# Altium schematic symbol library ISL.SchLib: 24 symbols
Pins are listed as number, name and electrical type; pins without a type are passive.

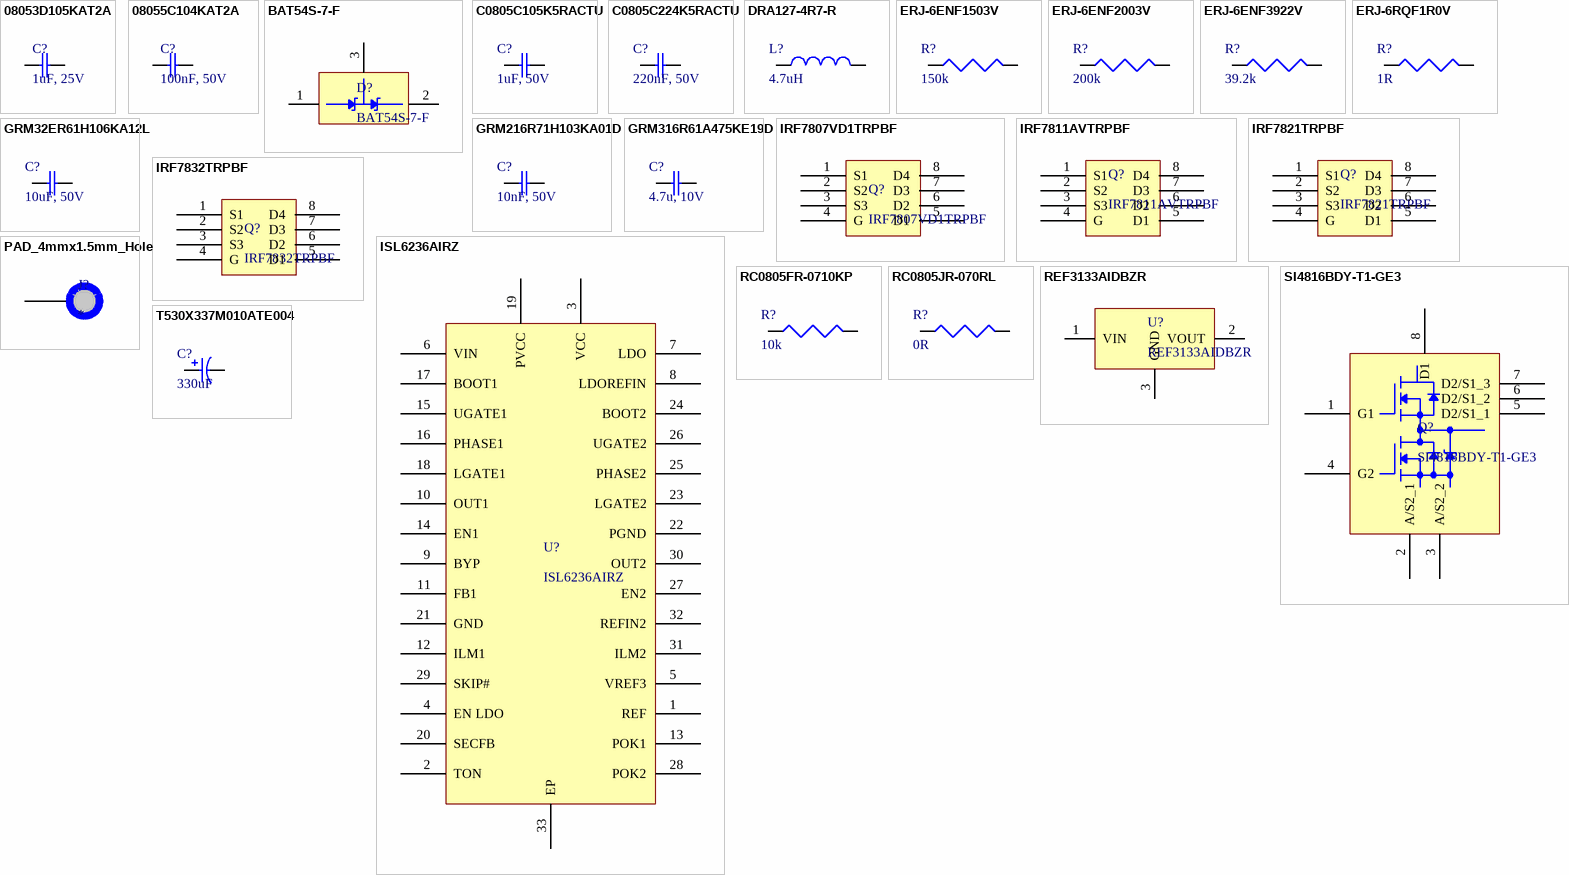
[diagram p0: symbols 08053D105KAT2A to T530X337M010ATE004]

## 08053D105KAT2A
designator C?, comment 1uF, 25V
CAP CER 1UF 25V X5R 0805; Manufacturer: AVX Corporation; Manufacturer Part Number: 08053D105KAT2A; Capacitance: 1µF; Tolerance: ±10%; Supplier 1: Digi-Key; RoHS: RoHS Compliant; Category: Capacitors; Stock 1: 76642; Pricing 1: 1=0.48, 10=0.42, 100=0.21, 250=0.168, 500=0.153, 1000=0.138 (USD); Packaging: Cut Tape (CT); Voltage - Rated: 25V; Temperature Coefficient: X5R; Mounting Type: Surface Mount, MLCC; Operating Temperature: -55°C ~ 85°C; Applications: General Purpose; Ratings: -; Package / Case: 0805 (2012 Metric); Size / Dimension: 0.079" L x 0.049" W (2.01mm x 1.25mm); Height - Seated (Max): -; Thickness (Max): 0.055" (1.40mm); Lead Spacing: -; Features: -; Lead Style: -; ComponentLink1URL: http://datasheets.avx.com/cx5r.pdf; ComponentLink1Description: http://datasheets.avx.com/cx5r.pdf; Supplier Part Number 1: 478-1409-1-ND
footprint C0805
pins: 1, 2

## 08055C104KAT2A
designator C?, comment 100nF, 50V
CAP CER 0.1UF 50V X7R 0805; Manufacturer: AVX Corporation; Manufacturer Part Number: 08055C104KAT2A; Capacitance: 0.1µF; Tolerance: ±10%; Supplier 1: Digi-Key; RoHS: RoHS Compliant; Category: Capacitors; Stock 1: 10719332; Pricing 1: 1=0.1, 10=0.036, 100=0.0165, 250=0.01352, 500=0.01156, 1000=0.009 (USD); Packaging: Cut Tape (CT); Voltage - Rated: 50V; Temperature Coefficient: X7R; Mounting Type: Surface Mount, MLCC; Operating Temperature: -55°C ~ 125°C; Applications: General Purpose; Ratings: -; Package / Case: 0805 (2012 Metric); Size / Dimension: 0.079" L x 0.049" W (2.01mm x 1.25mm); Height - Seated (Max): -; Thickness (Max): 0.037" (0.94mm); Lead Spacing: -; Features: -; Lead Style: -; ComponentLink1URL: http://datasheets.avx.com/X7RDielectric.pdf; ComponentLink1Description: http://datasheets.avx.com/X7RDielectric.pdf; Supplier Part Number 1: 478-1395-1-ND
footprint C0805
pins: 1, 2

## BAT54S-7-F
designator D?
DIODE ARRAY SCHOTTKY 30V SOT23-3; Manufacturer: Diodes Incorporated; Diode Configuration: 1 Pair Series Connection; Current - Average Rectified (Io) (per Diode): 200mA (DC); Voltage - Forward (Vf) (Max) @ If: 800mV @ 100mA; Speed: Small Signal =< 200mA (Io), Any Speed; Reverse Recovery Time (trr): 5ns; Current - Reverse Leakage @ Vr: 2µA @ 25V; Supplier 1: Digi-Key; Manufacturer Part Number: BAT54S-7-F; RoHS: RoHS Compliant; Category: Discrete Semiconductor Products; Stock 1: 198289; Pricing 1: 1=0.19, 10=0.176, 100=0.0958, 500=0.0589, 1000=0.04017 (USD); Packaging: Cut Tape (CT); Diode Type: Schottky; Voltage - DC Reverse (Vr) (Max): 30V; Mounting Type: Surface Mount; Package / Case: TO-236-3, SC-59, SOT-23-3; Supplier Device Package: SOT-23-3; ComponentLink1URL: http://www.diodes.com/_files/datasheets/ds11005.pdf; ComponentLink1Description: http://www.diodes.com/_files/datasheets/ds11005.pdf; Supplier Part Number 1: BAT54S-FDICT-ND
footprint SOT-23
pins: 1 A1, 2 K2, 3 K1A2

## C0805C105K5RACTU
designator C?, comment 1uF, 50V
CAP CER 1UF 50V X7R 0805; Manufacturer: Kemet; Manufacturer Part Number: C0805C105K5RACTU; Capacitance: 1µF; Tolerance: ±10%; Supplier 1: Digi-Key; RoHS: RoHS Compliant; Category: Capacitors; Stock 1: 171950; Pricing 1: 1=0.34, 10=0.28, 50=0.1576, 100=0.14, 250=0.105, 500=0.09276, 1000=0.08225 (USD); Packaging: Cut Tape (CT); Voltage - Rated: 50V; Temperature Coefficient: X7R; Mounting Type: Surface Mount, MLCC; Operating Temperature: -55°C ~ 125°C; Applications: General Purpose; Ratings: -; Package / Case: 0805 (2012 Metric); Size / Dimension: 0.079" L x 0.049" W (2.00mm x 1.25mm); Height - Seated (Max): -; Thickness (Max): 0.055" (1.40mm); Lead Spacing: -; Features: -; Lead Style: -; ComponentLink1URL: http://www.kemet.com/docfinder?Partnumber=C0805C105K5RACTU; ComponentLink1Description: http://www.kemet.com/docfinder?Partnumber=C0805C105K5RACTU; Supplier Part Number 1: 399-7409-1-ND
footprint C0805
pins: 1, 2

## C0805C224K5RACTU
designator C?, comment 220nF, 50V
CAP CER 0.22UF 50V X7R 0805; Manufacturer: Kemet; Manufacturer Part Number: C0805C224K5RACTU; Capacitance: 0.22µF; Tolerance: ±10%; Supplier 1: Digi-Key; RoHS: RoHS Compliant; Category: Capacitors; Stock 1: 999894; Pricing 1: 1=0.14, 10=0.095, 50=0.0546, 100=0.0451, 250=0.038, 500=0.03182, 1000=0.02613 (USD); Packaging: Cut Tape (CT); Voltage - Rated: 50V; Temperature Coefficient: X7R; Mounting Type: Surface Mount, MLCC; Operating Temperature: -55°C ~ 125°C; Applications: General Purpose; Ratings: -; Package / Case: 0805 (2012 Metric); Size / Dimension: 0.079" L x 0.049" W (2.00mm x 1.25mm); Height - Seated (Max): -; Thickness (Max): 0.055" (1.40mm); Lead Spacing: -; Features: -; Lead Style: -; ComponentLink1URL: http://www.kemet.com/docfinder?Partnumber=C0805C224K5RACTU; ComponentLink1Description: http://www.kemet.com/docfinder?Partnumber=C0805C224K5RACTU; Supplier Part Number 1: 399-3491-1-ND
footprint C0805
pins: 1, 2

## DRA127-4R7-R
designator L?, comment 4.7uH
FIXED IND 4.7UH 8.14A 9.4 MOHM; Manufacturer: Eaton Bussmann; Manufacturer Part Number: DRA127-4R7-R; Type: Wirewound; Inductance: 4.7µH; Tolerance: ±20%; Current - Saturation: 16.5A; Shielding: Shielded; Frequency - Test: 100kHz; Supplier 1: Digi-Key; RoHS: RoHS Compliant; Category: Inductors, Coils, Chokes; Stock 1: 411; Pricing 1: 1=2.55, 10=2.38, 50=1.938, 100=1.768 (USD); Packaging: Cut Tape (CT); Material - Core: -; Current Rating: 8.14A; DC Resistance (DCR): 9.4 mOhm; Q @ Freq: -; Frequency - Self Resonant: -; Ratings: AEC-Q200; Operating Temperature: -40°C ~ 165°C; Mounting Type: Surface Mount; Package / Case: Nonstandard; Size / Dimension: 0.492" L x 0.492" W (12.50mm x 12.50mm); Height - Seated (Max): 0.315" (8.00mm); ComponentLink1URL: http://www1.cooperbussmann.com/pdf/9190a0eb-f996-4faf-a4d6-7b76f954f32d.pdf; ComponentLink1Description: http://www1.cooperbussmann.com/pdf/9190a0eb-f996-4faf-a4d6-7b76f954f32d.pdf; Supplier Part Number 1: 283-3598-1-ND
footprint DR127
pins: 1, 2

## ERJ-6ENF1503V
designator R?, comment 150k
RES SMD 150K OHM 1% 1/8W 0805; Manufacturer: Panasonic Electronic Components; Manufacturer Part Number: ERJ-6ENF1503V; Power (Watts): 0.125W, 1/8W; Temperature Coefficient: ±100ppm/°C; Supplier 1: Digi-Key; RoHS: RoHS Compliant; Category: Resistors; Stock 1: 91069; Pricing 1: 1=0.1, 50=0.022, 100=0.0162, 250=0.01236, 500=0.0099, 1000=0.00729 (USD); Packaging: Cut Tape (CT); Resistance (Ohms): 150k; Tolerance: ±1%; Composition: Thick Film; Features: Automotive AEC-Q200; Operating Temperature: -55°C ~ 155°C; Package / Case: 0805 (2012 Metric); Supplier Device Package: 0805; Size / Dimension: 0.079" L x 0.049" W (2.00mm x 1.25mm); Height: 0.028" (0.70mm); Number of Terminations: 2; ComponentLink1URL: http://industrial.panasonic.com/www-cgi/jvcr13pz.cgi?E+PZ+3+AOA0002+ERJ6ENF1503V+7+WW; ComponentLink1Description: http://industrial.panasonic.com/www-cgi/jvcr13pz.cgi?E+PZ+3+AOA0002+ERJ6ENF1503V+7+WW; Supplier Part Number 1: P150KCCT-ND
footprint R0805
pins: 1, 2

## ERJ-6ENF2003V
designator R?, comment 200k
PANASONIC ELECTRONIC COMPONENTS - ERJ-6ENF2003V - RES, THICK FILM, 200K, 1%, 0.125W, 0805; Product Range: AEC-Q200 ERJ Series; Resistance: 200; Power Rating: 125; Voltage Rating: 150; Resistor Case Style: 0805 [2012 Metric]; Supplier 1: Newark; Manufacturer: PANASONIC ELECTRONIC COMPONENTS; Manufacturer Part Number: ERJ-6ENF2003V; RoHS: YES; Stock 1: 4312; Pricing 1: 1=0.005, 50=0.005, 100=0.005, 250=0.005, 500=0.005, 1000=0.005, 2500=0.005 (USD); Resistance Tolerance: 1%; Packaging: Cut Tape; MSL: -; ComponentLink1URL: http://www.farnell.com/cad/1697894.zip; ComponentLink1Description: http://www.farnell.com/cad/1697894.zip; ComponentLink2URL: http://www.farnell.com/datasheets/1678782.pdf; ComponentLink2Description: http://www.farnell.com/datasheets/1678782.pdf; Supplier Part Number 1: 65T8717
footprint R0805
pins: 1, 2

## ERJ-6ENF3922V
designator R?, comment 39.2k
RES SMD 39.2K OHM 1% 1/8W 0805; Manufacturer: Panasonic Electronic Components; Manufacturer Part Number: ERJ-6ENF3922V; Power (Watts): 0.125W, 1/8W; Temperature Coefficient: ±100ppm/°C; Supplier 1: Digi-Key; RoHS: RoHS Compliant; Category: Resistors; Stock 1: 135124; Pricing 1: 1=0.1, 50=0.022, 100=0.0162, 250=0.01236, 500=0.0099, 1000=0.00729 (USD); Packaging: Cut Tape (CT); Resistance (Ohms): 39.2k; Tolerance: ±1%; Composition: Thick Film; Features: Automotive AEC-Q200; Operating Temperature: -55°C ~ 155°C; Package / Case: 0805 (2012 Metric); Supplier Device Package: 0805; Size / Dimension: 0.079" L x 0.049" W (2.00mm x 1.25mm); Height: 0.028" (0.70mm); Number of Terminations: 2; ComponentLink1URL: http://industrial.panasonic.com/www-cgi/jvcr13pz.cgi?E+PZ+3+AOA0002+ERJ6ENF3922V+7+WW; ComponentLink1Description: http://industrial.panasonic.com/www-cgi/jvcr13pz.cgi?E+PZ+3+AOA0002+ERJ6ENF3922V+7+WW; Supplier Part Number 1: P39.2KCCT-ND
footprint R0805
pins: 1, 2

## ERJ-6RQF1R0V
designator R?, comment 1R
RES SMD 1 OHM 1% 1/8W 0805; Manufacturer: Panasonic Electronic Components; Manufacturer Part Number: ERJ-6RQF1R0V; Resistance (Ohms): 1; Power (Watts): 0.125W, 1/8W; Temperature Coefficient: ±200ppm/°C; Supplier 1: Digi-Key; RoHS: RoHS Compliant; Category: Resistors; Stock 1: 104241; Pricing 1: 1=0.57, 50=0.2266, 100=0.1748, 250=0.13596, 500=0.09584, 1000=0.06993 (USD); Packaging: Cut Tape (CT); Tolerance: ±1%; Composition: Thick Film; Features: Automotive AEC-Q200, Current Sense; Operating Temperature: -55°C ~ 125°C; Package / Case: 0805 (2012 Metric); Supplier Device Package: 0805; Size / Dimension: 0.079" L x 0.049" W (2.00mm x 1.25mm); Height: 0.028" (0.70mm); Number of Terminations: 2; ComponentLink1URL: http://industrial.panasonic.com/lecs/www-data/pdf/AOA0000/AOA0000CE3.pdf; ComponentLink1Description: http://industrial.panasonic.com/lecs/www-data/pdf/AOA0000/AOA0000CE3.pdf; Supplier Part Number 1: P1.0DCT-ND
footprint R0805
pins: 1, 2

## GRM32ER61H106KA12L
designator C?, comment 10uF, 50V
CAP CER 10UF 50V X5R 1210; Manufacturer: Murata Electronics North America; Manufacturer Part Number: GRM32ER61H106KA12L; Capacitance: 10µF; Tolerance: ±10%; Supplier 1: Digi-Key; RoHS: RoHS Compliant; Category: Capacitors; Stock 1: 6405; Pricing 1: 1=0.89, 10=0.755, 50=0.5558, 100=0.4418, 250=0.37052, 500=0.33488 (USD); Packaging: Cut Tape (CT); Voltage - Rated: 50V; Temperature Coefficient: X5R; Mounting Type: Surface Mount, MLCC; Operating Temperature: -55°C ~ 85°C; Applications: General Purpose; Ratings: -; Package / Case: 1210 (3225 Metric); Size / Dimension: 0.126" L x 0.098" W (3.20mm x 2.50mm); Height - Seated (Max): -; Thickness (Max): 0.106" (2.70mm); Lead Spacing: -; Features: -; Lead Style: -; ComponentLink1URL: http://www.murata.com/~/media/webrenewal/support/library/catalog/products/capacitor/mlcc/c02e.pdf; ComponentLink1Description: http://www.murata.com/~/media/webrenewal/support/library/catalog/products/capacitor/mlcc/c02e.pdf; Supplier Part Number 1: 490-8590-1-ND
footprint C1210
pins: 1, 2

## GRM216R71H103KA01D
designator C?, comment 10nF, 50V
CAP CER 10000PF 50V X7R 0805; Manufacturer: Murata Electronics North America; Manufacturer Part Number: GRM216R71H103KA01D; Tolerance: ±10%; Supplier 1: Digi-Key; RoHS: RoHS Compliant; Category: Capacitors; Stock 1: 1473285; Pricing 1: 1=0.1, 10=0.031, 50=0.0168, 100=0.0142, 250=0.01164, 500=0.00998, 1000=0.00777 (USD); Packaging: Cut Tape (CT); Capacitance: 10000pF; Voltage - Rated: 50V; Temperature Coefficient: X7R; Mounting Type: Surface Mount, MLCC; Operating Temperature: -55°C ~ 125°C; Applications: General Purpose; Ratings: -; Package / Case: 0805 (2012 Metric); Size / Dimension: 0.079" L x 0.049" W (2.00mm x 1.25mm); Height - Seated (Max): -; Thickness (Max): 0.028" (0.70mm); Lead Spacing: -; Features: -; Lead Style: -; ComponentLink1URL: http://www.murata.com/~/media/webrenewal/support/library/catalog/products/capacitor/mlcc/c02e.pdf; ComponentLink1Description: http://www.murata.com/~/media/webrenewal/support/library/catalog/products/capacitor/mlcc/c02e.pdf; Supplier Part Number 1: 490-1664-1-ND
footprint C0805
pins: 1, 2

## GRM316R61A475KE19D
designator C?, comment 4.7u, 10V
CAP CER 4.7UF 10V X5R 1206; Manufacturer: Murata Electronics North America; Manufacturer Part Number: GRM316R61A475KE19D; Capacitance: 4.7µF; Tolerance: ±10%; Supplier 1: Digi-Key; RoHS: RoHS Compliant; Category: Capacitors; Stock 1: 8071; Pricing 1: 1=0.34, 10=0.282, 50=0.1588, 100=0.1412, 250=0.10592, 500=0.09354, 1000=0.08296 (USD); Packaging: Cut Tape (CT); Voltage - Rated: 10V; Temperature Coefficient: X5R; Mounting Type: Surface Mount, MLCC; Operating Temperature: -55°C ~ 85°C; Applications: General Purpose; Ratings: -; Package / Case: 1206 (3216 Metric); Size / Dimension: 0.126" L x 0.063" W (3.20mm x 1.60mm); Height - Seated (Max): -; Thickness (Max): 0.028" (0.70mm); Lead Spacing: -; Features: -; Lead Style: -; ComponentLink1URL: http://www.murata.com/~/media/webrenewal/support/library/catalog/products/capacitor/mlcc/c02e.pdf; ComponentLink1Description: http://www.murata.com/~/media/webrenewal/support/library/catalog/products/capacitor/mlcc/c02e.pdf; Supplier Part Number 1: 490-1818-1-ND
footprint C1206
pins: 1, 2

## IRF7807VD1TRPBF
designator Q?
MOSFET N-CH 30V 8.3A 8-SOIC; Manufacturer: Infineon Technologies Americas Corp.; FET Type: MOSFET N-Channel, Metal Oxide; FET Feature: Diode (Isolated); Current - Continuous Drain (Id) @ 25°C: 8.3A (Ta); Rds On (Max) @ Id, Vgs: 25 mOhm @ 7A, 4.5V; Vgs(th) (Max) @ Id: 3V @ 250µA; Gate Charge (Qg) @ Vgs: 14nC @ 4.5V; Power - Max: 2.5W; Supplier 1: Digi-Key; Manufacturer Part Number: IRF7807VD1TRPBF; RoHS: RoHS Compliant; Category: Discrete Semiconductor Products; Stock 1: 3959; Pricing 1: 1=1.12, 10=1.003, 100=0.7821, 500=0.6468, 1000=0.5115 (USD); Packaging: Cut Tape (CT); Drain to Source Voltage (Vdss): 30V; Input Capacitance (Ciss) @ Vds: -; Mounting Type: Surface Mount; Package / Case: 8-SOIC (0.154", 3.90mm Width); Supplier Device Package: 8-SO; ComponentLink1URL: http://www.irf.com/product-info/datasheets/data/irf7807vd1pbf.pdf; ComponentLink1Description: http://www.irf.com/product-info/datasheets/data/irf7807vd1pbf.pdf; Supplier Part Number 1: IRF7807VD1PBFCT-ND
footprint SO-8
pins: 1 S1, 2 S2, 3 S3, 4 G, 5 D1, 6 D2, 7 D3, 8 D4

## IRF7811AVTRPBF
designator Q?
MOSFET N-CH 30V 10.8A 8-SOIC; Manufacturer: Infineon Technologies Americas Corp.; FET Type: MOSFET N-Channel, Metal Oxide; FET Feature: Standard; Current - Continuous Drain (Id) @ 25°C: 10.8A (Ta); Rds On (Max) @ Id, Vgs: 14 mOhm @ 15A, 4.5V; Vgs(th) (Max) @ Id: 3V @ 250µA; Gate Charge (Qg) @ Vgs: 26nC @ 5V; Input Capacitance (Ciss) @ Vds: 1801pF @ 10V; Power - Max: 2.5W; Supplier 1: Digi-Key; Manufacturer Part Number: IRF7811AVTRPBF; RoHS: RoHS Compliant; Category: Discrete Semiconductor Products; Stock 1: 1559; Pricing 1: 1=1, 10=0.897, 100=0.6992, 500=0.5782, 1000=0.45725 (USD); Packaging: Cut Tape (CT); Drain to Source Voltage (Vdss): 30V; Mounting Type: Surface Mount; Package / Case: 8-SOIC (0.154", 3.90mm Width); Supplier Device Package: 8-SO; ComponentLink1URL: http://www.irf.com/product-info/datasheets/data/irf7811avpbf.pdf; ComponentLink1Description: http://www.irf.com/product-info/datasheets/data/irf7811avpbf.pdf; Supplier Part Number 1: IRF7811AVPBFCT-ND
footprint SO-8
pins: 1 S1, 2 S2, 3 S3, 4 G, 5 D1, 6 D2, 7 D3, 8 D4

## IRF7821TRPBF
designator Q?
MOSFET N-CH 30V 13.6A 8-SOIC; Manufacturer: Infineon Technologies Americas Corp.; FET Type: MOSFET N-Channel, Metal Oxide; FET Feature: Standard; Current - Continuous Drain (Id) @ 25°C: 13.6A (Ta); Rds On (Max) @ Id, Vgs: 9.1 mOhm @ 13A, 10V; Vgs(th) (Max) @ Id: 1V @ 250µA; Gate Charge (Qg) @ Vgs: 14nC @ 4.5V; Input Capacitance (Ciss) @ Vds: 1010pF @ 15V; Power - Max: 2.5W; Supplier 1: Digi-Key; Manufacturer Part Number: IRF7821TRPBF; RoHS: RoHS Compliant; Category: Discrete Semiconductor Products; Stock 1: 20317; Pricing 1: 1=1.02, 10=0.915, 100=0.7134, 500=0.58996, 1000=0.46655 (USD); Packaging: Cut Tape (CT); Drain to Source Voltage (Vdss): 30V; Mounting Type: Surface Mount; Package / Case: 8-SOIC (0.154", 3.90mm Width); Supplier Device Package: 8-SO; ComponentLink1URL: http://www.irf.com/product-info/datasheets/data/irf7821pbf.pdf; ComponentLink1Description: http://www.irf.com/product-info/datasheets/data/irf7821pbf.pdf; Supplier Part Number 1: IRF7821PBFCT-ND
footprint SO-8
pins: 1 S1, 2 S2, 3 S3, 4 G, 5 D1, 6 D2, 7 D3, 8 D4

## IRF7832TRPBF
designator Q?
MOSFET N-CH 30V 20A 8-SOIC; Manufacturer: Infineon Technologies Americas Corp.; FET Type: MOSFET N-Channel, Metal Oxide; FET Feature: Standard; Current - Continuous Drain (Id) @ 25°C: 20A (Ta); Rds On (Max) @ Id, Vgs: 4 mOhm @ 20A, 10V; Vgs(th) (Max) @ Id: 2.32V @ 250µA; Gate Charge (Qg) @ Vgs: 51nC @ 4.5V; Input Capacitance (Ciss) @ Vds: 4310pF @ 15V; Power - Max: 2.5W; Supplier 1: Digi-Key; Manufacturer Part Number: IRF7832TRPBF; RoHS: RoHS Compliant; Category: Discrete Semiconductor Products; Stock 1: 3129; Pricing 1: 1=1.59, 10=1.42, 100=1.1068, 500=0.91532, 1000=0.72385 (USD); Packaging: Cut Tape (CT); Drain to Source Voltage (Vdss): 30V; Mounting Type: Surface Mount; Package / Case: 8-SOIC (0.154", 3.90mm Width); Supplier Device Package: 8-SO; ComponentLink1URL: http://www.irf.com/product-info/datasheets/data/irf7832pbf.pdf; ComponentLink1Description: http://www.irf.com/product-info/datasheets/data/irf7832pbf.pdf; Supplier Part Number 1: IRF7832PBFCT-ND
footprint SO-8
pins: 1 S1, 2 S2, 3 S3, 4 G, 5 D1, 6 D2, 7 D3, 8 D4

## ISL6236AIRZ
designator U?
IC MAIN PWR CTRLR QUAD 32-QFN; Manufacturer: Intersil; Voltage - Input: 4.5 V ~ 25 V; Number of Outputs: 4; Voltage - Output: Multiple; Supplier 1: Digi-Key; Manufacturer Part Number: ISL6236AIRZ; RoHS: RoHS Compliant; Category: Integrated Circuits (ICs); Stock 1: 0; Pricing 1: 600=3.818 (USD); Packaging: Tube; Applications: Controller, Notebook Power System; Operating Temperature: -40°C ~ 100°C; Mounting Type: Surface Mount; Package / Case: 32-VFQFN Exposed Pad; Supplier Device Package: 32-QFN (5x5); ComponentLink1URL: http://www.intersil.com/content/dam/Intersil/documents/fn64/fn6453.pdf; ComponentLink1Description: http://www.intersil.com/content/dam/Intersil/documents/fn64/fn6453.pdf; Supplier Part Number 1: ISL6236AIRZ-ND
footprint L32.5.5B
pins: 1 REF, 2 TON, 3 VCC, 4 EN LDO, 5 VREF3, 6 VIN, 7 LDO, 8 LDOREFIN, 9 BYP, 10 OUT1, 11 FB1, 12 ILM1, 13 POK1, 14 EN1, 15 UGATE1, 16 PHASE1, 17 BOOT1, 18 LGATE1, 19 PVCC, 20 SECFB, 21 GND, 22 PGND, 23 LGATE2, 24 BOOT2, 25 PHASE2, 26 UGATE2, 27 EN2, 28 POK2, 29 SKIP#, 30 OUT2, 31 ILM2, 32 REFIN2, 33 EP

## PAD_4mmx1.5mm_Hole
designator J?
Pad 4mm x 1.5mm with hole
footprint PAD_WITH_HOLE_4x1mm
pins: 1

## RC0805FR-0710KP
designator R?, comment 10k
RES SMD 10K OHM 1% 1/8W 0805; Manufacturer: Yageo; Manufacturer Part Number: RC0805FR-0710KP; Power (Watts): 0.125W, 1/8W; Temperature Coefficient: ±100ppm/°C; Supplier 1: Digi-Key; RoHS: RoHS Compliant; Category: Resistors; Stock 1: 272590; Pricing 1: 1=0.1, 10=0.036, 25=0.026, 100=0.0146, 250=0.01112, 500=0.00892, 1000=0.00656, 2500=0.00569 (USD); Packaging: Cut Tape (CT); Resistance (Ohms): 10k; Tolerance: ±1%; Composition: Thick Film; Features: Moisture Resistant; Operating Temperature: -55°C ~ 155°C; Package / Case: 0805 (2012 Metric); Supplier Device Package: 0805 (2012 Metric); Size / Dimension: 0.079" L x 0.049" W (2.00mm x 1.25mm); Height: 0.024" (0.60mm); Number of Terminations: 2; ComponentLink1URL: http://www.yageo.com/NewPortal/yageodocoutput?fileName=/pdf/R-Chip/PYu-RC_51_RoHS_P_0.pdf; ComponentLink1Description: http://www.yageo.com/NewPortal/yageodocoutput?fileName=/pdf/R-Chip/PYu-RC_51_RoHS_P_0.pdf; Supplier Part Number 1: YAG1319CT-ND
footprint R0805
pins: 1, 2

## RC0805JR-070RL
designator R?, comment 0R
RES SMD 0.0 OHM JUMPER 1/8W 0805; Manufacturer: Yageo; Manufacturer Part Number: RC0805JR-070RL; Resistance (Ohms): 0.0; Power (Watts): 0.125W, 1/8W; Supplier 1: Digi-Key; RoHS: RoHS Compliant; Category: Resistors; Stock 1: 2006092; Pricing 1: 1=0.1, 10=0.018, 25=0.0128, 100=0.0073, 250=0.00556, 500=0.00444, 1000=0.00326, 2500=0.00283 (USD); Packaging: Cut Tape (CT); Tolerance: Jumper; Composition: Thick Film; Features: Moisture Resistant; Temperature Coefficient: -; Operating Temperature: -55°C ~ 155°C; Package / Case: 0805 (2012 Metric); Supplier Device Package: 0805; Size / Dimension: 0.079" L x 0.049" W (2.00mm x 1.25mm); Height: 0.024" (0.60mm); Number of Terminations: 2; ComponentLink1URL: http://www.yageo.com/NewPortal/yageodocoutput?fileName=/pdf/R-Chip/PYu-RC_Group_51_RoHS_L_3.pdf; ComponentLink1Description: http://www.yageo.com/NewPortal/yageodocoutput?fileName=/pdf/R-Chip/PYu-RC_Group_51_RoHS_L_3.pdf; Supplier Part Number 1: 311-0.0ARCT-ND
footprint R0805
pins: 1, 2

## REF3133AIDBZR
designator U?
IC VREF SERIES 3.3V SOT23-3; Manufacturer: Texas Instruments; Output Type: Fixed; Current - Output: 10mA; Tolerance: ±0.2%; Temperature Coefficient: 20ppm/°C; Noise - 0.1Hz to 10Hz: 43µVp-p; Noise - 10Hz to 10kHz: 63µVrms; Voltage - Input: 3.35 V ~ 5.5 V; Current - Supply: 135µA; Supplier 1: Digi-Key; Manufacturer Part Number: REF3133AIDBZR; RoHS: RoHS Compliant; Category: Integrated Circuits (ICs); Stock 1: 2876; Pricing 1: 1=2.71, 10=2.432, 100=1.9513, 500=1.6038, 1000=1.11375 (USD); Packaging: Cut Tape (CT); Reference Type: Series; Voltage - Output (Min/Fixed): 3.3V; Voltage - Output (Max): -; Current - Cathode: -; Operating Temperature: -40°C ~ 125°C (TA); Mounting Type: Surface Mount; Package / Case: TO-236-3, SC-59, SOT-23-3; Supplier Device Package: SOT-23-3; ComponentLink1URL: http://www.ti.com/lit/ds/symlink/ref3112.pdf; ComponentLink1Description: http://www.ti.com/lit/ds/symlink/ref3112.pdf; Supplier Part Number 1: 296-41483-1-ND
footprint SOT-23
pins: 1 VIN, 2 VOUT, 3 GND

## SI4816BDY-T1-GE3
designator Q?
MOSFET 2N-CH 30V 5.8A 8-SOIC; Manufacturer: Vishay Siliconix; FET Type: 2 N-Channel (Half Bridge); FET Feature: Logic Level Gate; Current - Continuous Drain (Id) @ 25°C: 5.8A, 8.2A; Rds On (Max) @ Id, Vgs: 18.5 mOhm @ 6.8A, 10V; Vgs(th) (Max) @ Id: 3V @ 250µA; Gate Charge (Qg) @ Vgs: 10nC @ 5V; Power - Max: 1W, 1.25W; Supplier 1: Digi-Key; Manufacturer Part Number: SI4816BDY-T1-GE3; RoHS: RoHS Compliant; Category: Discrete Semiconductor Products; Stock 1: 1267; Pricing 1: 1=1.6, 10=1.439, 100=1.1541, 500=0.9486, 1000=0.78523 (USD); Packaging: Cut Tape (CT); Drain to Source Voltage (Vdss): 30V; Input Capacitance (Ciss) @ Vds: -; Mounting Type: Surface Mount; Package / Case: 8-SOIC (0.154", 3.90mm Width); Supplier Device Package: 8-SO; ComponentLink1URL: http://www.vishay.com/docs/73026/si4816bd.pdf; ComponentLink1Description: http://www.vishay.com/docs/73026/si4816bd.pdf; Supplier Part Number 1: SI4816BDY-T1-GE3CT-ND
footprint SO-8
pins: 1 G1, 2 A/S2_1, 3 A/S2_2, 4 G2, 5 D2/S1_1, 6 D2/S1_2, 7 D2/S1_3, 8 D1

## T530X337M010ATE004
designator C?, comment 330uF
CAP TANT POLY 330UF 10V 2917; Manufacturer: Kemet; Manufacturer Part Number: T530X337M010ATE004; Manufacturer Size Code: X; Capacitance: 330µF; Tolerance: ±20%; ESR (Equivalent Series Resistance): 4 mOhm; Type: Molded; Lifetime @ Temp.: 2000 Hrs @ 105°C; Supplier 1: Digi-Key; RoHS: RoHS Compliant; Category: Capacitors; Stock 1: 1900; Pricing 1: 1=8.22, 10=7.685, 50=7.2876, 100=6.625, 250=5.69752 (USD); Packaging: Cut Tape (CT); Voltage - Rated: 10V; Operating Temperature: -55°C ~ 125°C; Mounting Type: Surface Mount; Package / Case: 2917 (7343 Metric); Size / Dimension: 0.287" L x 0.169" W (7.30mm x 4.30mm); Height - Seated (Max): 0.169" (4.30mm); Lead Spacing: -; Features: General Purpose; ComponentLink1URL: http://www.kemet.com/docfinder?Partnumber=T530X337M010ATE004; ComponentLink1Description: http://www.kemet.com/docfinder?Partnumber=T530X337M010ATE004; Supplier Part Number 1: 399-10378-1-ND
footprint 7343-43
pins: 1, 2